# Altium footprint library local_lib.PcbLib: 12 footprints
Each footprint in its own frame and in the unit in brackets; x right, y up, seen from the top. Pads: shape width x height; smd on the part's side, far side on the other; paste and mask are expansions set on the pad; w line width, h text height; cw(c..) or ccw(c..) is an arc to the next point about the centre after c.
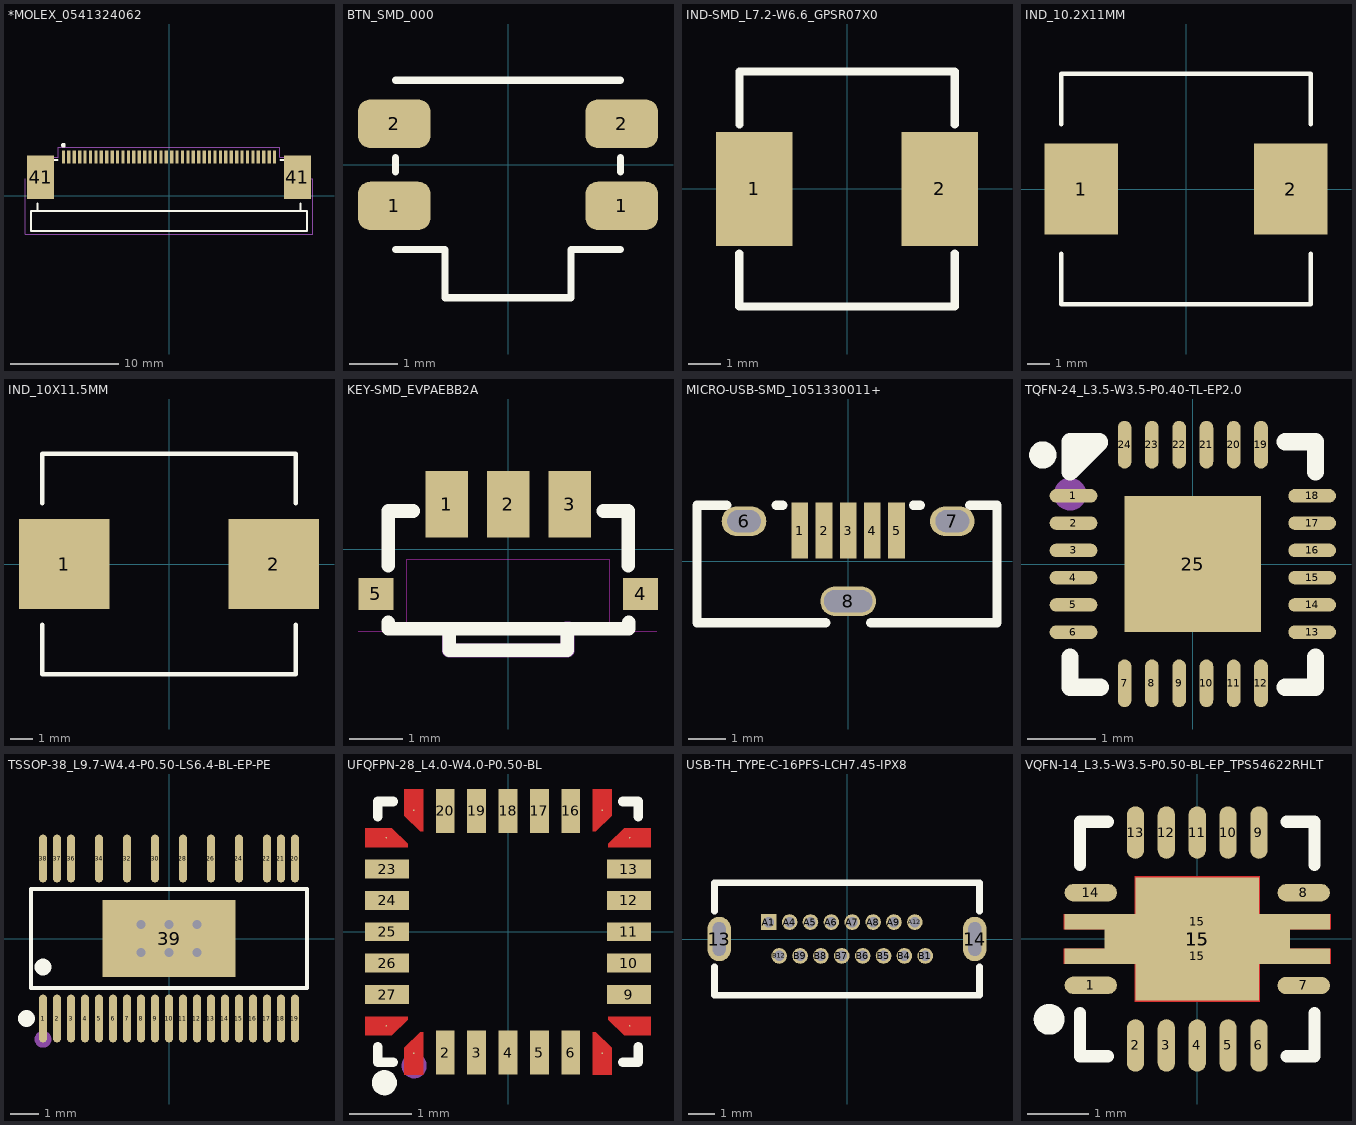
[diagram p0: the footprints below, top view; thin cyan lines are the x and y axes]

## *MOLEX_0541324062 [mm]
height 0.55
pads (42):
  rect 0.3x1.2 smd: 1(-9.75,3.575) 2(-9.25,3.575) 3(-8.75,3.575) 4(-8.25,3.575) 5(-7.75,3.575) 6(-7.25,3.575) 7(-6.75,3.575) 8(-6.25,3.575) 9(-5.75,3.575) 10(-5.25,3.575) 11(-4.75,3.575) 12(-4.25,3.575) 13(-3.75,3.575) 14(-3.25,3.575) 15(-2.75,3.575) 16(-2.25,3.575) 17(-1.75,3.575) 18(-1.25,3.575) 19(-0.75,3.575) 20(-0.25,3.575) 21(0.25,3.575) 22(0.75,3.575) 23(1.25,3.575) 24(1.75,3.575) 25(2.25,3.575) 26(2.75,3.575) 27(3.25,3.575) 28(3.75,3.575) 29(4.25,3.575) 30(4.75,3.575) 31(5.25,3.575) 32(5.75,3.575) 33(6.25,3.575) 34(6.75,3.575) 35(7.25,3.575) 36(7.75,3.575) 37(8.25,3.575) 38(8.75,3.575) 39(9.25,3.575) 40(9.75,3.575)
  rect 2.5x4 smd: 41(-11.856,1.7) 41(11.856,1.7)
Top Overlay:
  circle w0.2: c-9.76,4.65 r0.12
  circle w0.2: c-9.74,4.62 r0.042
  lines w0.2: -12.15,-0.75 -12.15,-1.425 ; -12.15,2.45 -12.15,3.275 -10.3,3.275 ; 10.3,3.275 12.15,3.275 12.15,2.45 ; 12.15,-0.75 12.15,-1.425 ; -12.15,-1.425 12.15,-1.425 ; -12.15,-1.425 -12.75,-1.425 -12.75,-3.275 12.75,-3.275 12.75,-1.425 12.15,-1.425
Mechanical 16:
  lines w0.05: -13.3,1.55 -13.3,-3.55 13.3,-3.55 13.3,1.55 12.5,1.55 12.5,3.55 10.25,3.55 10.25,4.45 -10.25,4.45 -10.25,3.55 -12.5,3.55 -12.5,1.55
3D body "FPC-40.stp": height 2.11, standoff 0, extent -12.15,-1.8 12.15,4.05

## BTN_SMD_000 [mm]
pads (4):
  rrect50% 1.5x1 smd: 1(-2.35,-0.85) 1(2.35,-0.85) 2(-2.35,0.85) 2(2.35,0.85)
Top Overlay:
  lines w0.15: -2.325,-1.75 -1.3,-1.75 -1.3,-2.75 1.3,-2.75 1.3,-1.75 2.325,-1.75 ; -2.325,-0.15 -2.325,0.15 ; -2.325,1.75 2.325,1.75 ; 2.325,-0.15 2.325,0.15
3D body: height 1.6, standoff 0, extent -2.325,-1.75 2.325,1.75
3D body: height 1.5, standoff 0, extent -1.3,-2.75 1.3,-1.75

## IND-SMD_L7.2-W6.6_GPSR07X0 [mm]
height 0.55
pads (2):
  rect 2.35x3.5 smd: 1(-2.85,0) 2(2.85,0)
Top Overlay:
  lines w0.254: -3.3,-1.981 -3.3,-3.6 3.3,-3.6 ; -3.3,1.981 -3.3,3.6 3.3,3.6 3.3,1.981 ; 3.3,-3.596 3.3,-1.981
3D body: height 3, standoff 0, extent -3.3,-3.6 3.3,3.6

## IND_10.2X11MM [mm]
pads (2):
  rect 3.25x4 smd: 1(-4.625,0) 2(4.625,0)
Top Overlay:
  lines w0.2: -5.5,-2.85 -5.5,-5.1 5.5,-5.1 5.5,-2.85 ; -5.5,2.85 -5.5,5.1 5.5,5.1 5.5,2.85
3D body: height 1.5, standoff 0, extent 5.4,-1.5 5.9,1.5
3D body: height 1.5, standoff 0, extent -5.9,-1.5 -5.4,1.5
3D body: height 4.8, standoff 0, extent -5.5,-5.1 5.5,5.1

## IND_10X11.5MM [mm]
pads (2):
  rect 4.1x4.1 smd: 1(-4.75,0) 2(4.75,0)
Top Overlay:
  lines w0.2: -5.75,-2.75 -5.75,-5 5.75,-5 5.75,-2.75 ; -5.75,2.75 -5.75,5 5.75,5 5.75,2.75
3D body: height 4.8, standoff 0, extent -5.75,-5 5.75,5
3D body: height 1.5, standoff 0, extent -6,-1.5 -5.5,1.5
3D body: height 1.5, standoff 0, extent 5.5,-1.5 6,1.5

## KEY-SMD_EVPAEBB2A [mm]
pads (5):
  rect 0.8x1.25 smd paste+0 mask+0.051: 1(-1.15,0.837) 2(0,0.838) 3(1.15,0.837)
  rect 0.65x0.6 smd paste+0 mask+0.051: 4(2.475,-0.838) 5(-2.475,-0.838)
Top Overlay:
  lines w0.254: -2.245,-1.369 -2.245,-1.488 2.25,-1.488 2.25,-1.369 ; -2.245,-0.306 -2.245,0.712 -1.781,0.712 ; -1.105,-1.618 -1.105,-1.893 1.105,-1.893 1.105,-1.488 ; 1.781,0.712 2.245,0.712 2.245,-0.306
Keep-Out Layer:
  lines w0.01: -2.81,-1.537 -1.9,-1.537 -1.9,-0.187 1.9,-0.187 1.9,-1.537 2.78,-1.537
Mechanical 15:
  region: -0.978,-1.617 -0.978,-1.766 0.978,-1.766 0.978,-1.488 0.978,-1.435 1.052,-1.361 1.158,-1.361 1.232,-1.435 1.232,-1.488 1.232,-1.893 1.232,-1.918 1.213,-1.964 1.177,-2 1.13,-2.02 1.105,-2.02 -1.105,-2.02 -1.13,-2.02 -1.177,-2 -1.213,-1.964 -1.232,-1.918 -1.232,-1.893 -1.232,-1.617 -1.232,-1.565 -1.158,-1.49 -1.052,-1.49 -0.978,-1.565
3D body "button.STEP": height 1.02, standoff -1.93, extent -2.775,-1.931 2.775,0.679

## MICRO-USB-SMD_1051330011+ [mm]
pads (8):
  rect 0.45x1.5 smd paste-100 mask+0.051: 1(-1.3,0.825) 2(-0.65,0.825) 3(0,0.825) 4(0.65,0.825) 5(1.3,0.825)
  oval 1.2x0.8 hole 0.6 slot 0.9 at 0 deg paste-2539.97 mask+0.051: 6(-2.8,1.075) 7(2.8,1.075)
  oval 1.5x0.8 hole 0.6 slot 1.3 at 0 deg paste-2539.97 mask+0.051: 8(0,-1.075)
Top Overlay:
  lines w0.254: -3.266,1.5 -4.064,1.5 -4.064,-1.651 -0.604,-1.651 ; -1.934,1.5 -1.756,1.5 ; 0.604,-1.651 4,-1.651 4,-1.5 4,1.5 3.266,1.5 ; 1.756,1.5 1.934,1.5
Top Paste:
  region: 1.075,1.575 1.525,1.575 1.525,0.075 1.075,0.075
  region: 0.425,1.575 0.875,1.575 0.875,0.075 0.425,0.075
  region: -0.225,1.575 0.225,1.575 0.225,0.075 -0.225,0.075
  region: -0.875,1.575 -0.425,1.575 -0.425,0.075 -0.875,0.075
  region: -1.525,1.575 -1.075,1.575 -1.075,0.075 -1.525,0.075
  region: -0.35,-1.475 -0.43,-1.475 -0.577,-1.414 -0.689,-1.302 -0.75,-1.154 -0.75,-0.995 -0.689,-0.848 -0.577,-0.736 -0.43,-0.675 -0.35,-0.675 0.35,-0.675 0.429,-0.675 0.576,-0.736 0.689,-0.848 0.75,-0.995 0.75,-1.154 0.689,-1.302 0.576,-1.414 0.429,-1.475 0.35,-1.475
  region: 2.6,0.675 2.52,0.675 2.373,0.736 2.261,0.848 2.2,0.995 2.2,1.154 2.261,1.302 2.373,1.414 2.52,1.475 2.6,1.475 3,1.475 3.08,1.475 3.227,1.414 3.339,1.302 3.4,1.154 3.4,0.995 3.339,0.848 3.227,0.736 3.08,0.675 3,0.675
  region: -3,0.675 -3.08,0.675 -3.227,0.736 -3.339,0.848 -3.4,0.995 -3.4,1.154 -3.339,1.302 -3.227,1.414 -3.08,1.475 -3,1.475 -2.6,1.475 -2.52,1.475 -2.373,1.414 -2.261,1.302 -2.2,1.154 -2.2,0.995 -2.261,0.848 -2.373,0.736 -2.52,0.675 -2.6,0.675
3D body "1051330011.step": height 6.78, standoff -2.25, extent -4,-1.574 4,1.501

## TQFN-24_L3.5-W3.5-P0.40-TL-EP2.0 [mm]
pads (25):
  oval 0.7x0.2 smd paste+0 mask+0.051: 1(-1.75,1) 2(-1.75,0.6) 3(-1.75,0.2) 4(-1.75,-0.2) 5(-1.75,-0.6) 6(-1.75,-1) 13(1.75,-1) 14(1.75,-0.6) 15(1.75,-0.2) 16(1.75,0.2) 17(1.75,0.6) 18(1.75,1)
  oval 0.2x0.7 smd paste+0 mask+0.051: 7(-1,-1.75) 8(-0.6,-1.75) 9(-0.2,-1.75) 10(0.2,-1.75) 11(0.6,-1.75) 12(1,-1.75) 19(1,1.75) 20(0.6,1.75) 21(0.2,1.75) 22(-0.2,1.75) 23(-0.6,1.75) 24(-1,1.75)
  rect 2x2 smd paste+0 mask+0.051: 25(0,0)
Top Overlay:
  circle w0.2: c-2.2,1.6 r0.1
  region: -1.372,1.792 -1.372,1.777 -1.8,1.349 -1.8,1.792
  lines w0.254: -1.8,-1.365 -1.8,-1.808 -1.357,-1.808 ; 1.357,-1.808 1.8,-1.808 1.8,-1.365 ; 1.357,1.792 1.8,1.792 1.8,1.349 ; -1.8,1.349 -1.372,1.777 -1.372,1.792 -1.8,1.792 -1.8,1.349
Mechanical 15:
  circle w0.24: c-1.801,1.024 r0.12
3D body: height 0.75, standoff 0, extent -1.75,-1.75 1.75,1.75

## TSSOP-38_L9.7-W4.4-P0.50-LS6.4-BL-EP-PE [mm]
pads (32):
  oval 0.28x1.715 smd paste+0 mask+0.051: 1(-4.5,-2.857) 2(-4,-2.857) 3(-3.5,-2.857) 4(-3,-2.857) 5(-2.5,-2.857) 6(-2,-2.857) 7(-1.5,-2.857) 8(-1,-2.857) 9(-0.5,-2.857) 10(0,-2.857) 11(0.5,-2.857) 12(1,-2.857) 13(1.5,-2.857) 14(2,-2.857) 15(2.5,-2.857) 16(3,-2.857) 17(3.5,-2.857) 18(4,-2.857) 19(4.5,-2.857) 20(4.5,2.857) 21(4,2.857) 22(3.5,2.857) 24(2.5,2.857) 26(1.5,2.857) 28(0.5,2.857) 30(-0.5,2.857) 32(-1.5,2.857) 34(-2.5,2.857) 36(-3.5,2.857) 37(-4,2.857) 38(-4.5,2.857)
  rect 4.75x2.74 smd paste+0 mask+0.051: 39(0,0)
via 1,0.5 diameter 0.61 hole 0.305
via 1,-0.5 diameter 0.61 hole 0.305
via 0,-0.5 diameter 0.61 hole 0.305
via -1,-0.5 diameter 0.61 hole 0.305
via -1,0.5 diameter 0.61 hole 0.305
via 0,0.5 diameter 0.61 hole 0.305
Top Overlay:
  circle w0.3: c-4.5,-1.019 r0.15
  circle w0.3: c-5.093,-2.857 r0.15
  lines w0.152: -4.926,-1.771 -4.926,1.771 4.926,1.771 4.926,-1.771 -4.926,-1.771
Mechanical 15:
  circle w0.3: c-4.5,-3.6 r0.15
3D body: height 0.8, standoff 0, extent -4.85,-2.2 4.85,2.2

## UFQFPN-28_L4.0-W4.0-P0.50-BL [mm]
pads (28):
  round 0.025 smd mask+0.05: 1(-1.5,-1.937) 7(1.5,-1.937) 8(1.937,-1.5) 14(1.937,1.5) 15(1.5,1.937) 21(-1.5,1.937) 22(-1.937,1.5) 28(-1.937,-1.5)
  rect 0.3x0.7 smd paste+0 mask+0.05: 2(-1,-1.925) 3(-0.5,-1.925) 4(0,-1.925) 5(0.5,-1.925) 6(1,-1.925) 16(1,1.925) 17(0.5,1.925) 18(0,1.925) 19(-0.5,1.925) 20(-1,1.925)
  rect 0.7x0.3 smd paste+0 mask+0.05: 9(1.925,-1) 10(1.925,-0.5) 11(1.925,0) 12(1.925,0.5) 13(1.925,1) 23(-1.925,1) 24(-1.925,0.5) 25(-1.925,0) 26(-1.925,-0.5) 27(-1.925,-1)
Top Layer:
  region: -1.85,1.65 -2.275,1.65 -2.275,1.35 -1.6,1.35 -1.6,1.4
  region: -1.85,-1.65 -2.275,-1.65 -2.275,-1.35 -1.6,-1.35 -1.6,-1.4
  region: 1.65,-1.85 1.65,-2.275 1.35,-2.275 1.35,-1.6 1.4,-1.6
  region: -1.65,-1.85 -1.65,-2.275 -1.35,-2.275 -1.35,-1.6 -1.4,-1.6
  region: 1.85,1.65 2.275,1.65 2.275,1.35 1.6,1.35 1.6,1.4
  region: 1.85,-1.65 2.275,-1.65 2.275,-1.35 1.6,-1.35 1.6,-1.4
  region: -1.65,1.85 -1.65,2.275 -1.35,2.275 -1.35,1.6 -1.4,1.6
  region: 1.65,1.85 1.65,2.275 1.35,2.275 1.35,1.6 1.4,1.6
Top Overlay:
  circle w0.2: c-1.97,-2.405 r0.1
  lines w0.152: -2.076,-1.831 -2.076,-2.076 -1.831,-2.076 ; -2.076,1.831 -2.076,2.076 -1.831,2.076 ; 1.831,-2.076 2.076,-2.076 2.076,-1.831 ; 1.831,2.076 2.076,2.076 2.076,1.831
Mechanical 15:
  circle w0.2: c-1.495,-2.135 r0.1
3D body: height 0.55, standoff 0, extent -2,-2 2,2

## USB-TH_TYPE-C-16PFS-LCH7.45-IPX8 [mm]
pads (18):
  oval 0.9x1.7 hole 0.5 slot 1.3 at 90 deg paste-2539.97 mask+0.051: 13(-4.9,0) 14(4.9,0)
  rect 0.6x0.6 hole 0.4 paste-2539.97 mask+0.05: A1(-3,0.65)
  round 0.6 hole 0.4 paste-2539.97 mask+0.05: A4(-2.2,0.65) A5(-1.4,0.65) A6(-0.6,0.65) A7(0.2,0.65) A8(1,0.65) A9(1.8,0.65) A12(2.6,0.65) B1(3,-0.65) B4(2.2,-0.65) B5(1.4,-0.65) B6(0.6,-0.65) B7(-0.2,-0.65) B8(-1,-0.65) B9(-1.8,-0.65) B12(-2.6,-0.65)
Top Overlay:
  lines w0.254: -5.08,-1.057 -5.08,-2.159 5.08,-2.159 5.08,-1.057 ; -5.08,1.057 -5.08,2.159 5.08,2.159 5.08,1.057
3D body "16PFS LCH7.45 IPX8.step": height 7.75, standoff -1.2, extent -5.02,-2.13 5.02,2.13

## VQFN-14_L3.5-W3.5-P0.50-BL-EP_TPS54622RHLT [mm]
pads (18):
  oval 0.85x0.28 smd paste+0 mask+0.051: 1(-1.725,-0.75) 7(1.725,-0.753) 8(1.725,0.75) 14(-1.725,0.75)
  oval 0.28x0.85 smd paste+0 mask+0.051: 2(-1,-1.725) 3(-0.5,-1.725) 4(0,-1.725) 5(0.5,-1.725) 6(1,-1.725) 9(1,1.725) 10(0.5,1.725) 11(0,1.725) 12(-0.5,1.725) 13(-1,1.725)
  rect 4.3x0.25 smd paste+0.001 mask+0.051: 15(0,-0.28) 15(0,0.28)
  rect 2x2 smd paste+0 mask+0.051: 15(0,0)
  rect 3x0.8 smd paste+0.002 mask+0.051: 15(0,0)
Top Layer:
  region: -1.016,-1.016 -1.016,-0.4 -2.16,-0.4 -2.16,-0.16 -1.44,-0.16 -1.44,0.16 -2.16,0.16 -2.16,0.4 -1.016,0.4 -1.016,1.016 1.016,1.016 1.016,0.4 2.16,0.4 2.16,0.16 1.44,0.16 1.44,-0.16 2.16,-0.16 2.16,-0.4 1.016,-0.4 1.016,-1.016
Top Overlay:
  lines w0.2: -1.9,-1.2 -1.9,-1.9 -1.45,-1.9 ; -1.9,1.2 -1.9,1.9 -1.45,1.9 ; 1.45,-1.9 1.9,-1.9 1.9,-1.2 ; 1.45,1.9 1.9,1.9 1.9,1.2
  lines w0.25: -2.4,-1.176 ccw(c-2.399,-1.301) -2.398,-1.176
Mechanical 15:
  circle w0.2: c-2.413,-1.27 r0.1
3D body: height 0.85, standoff 0, extent -1.75,-1.75 1.75,1.75